# EAGLE library part PIC18F87J94 (library microchip)
MCU 8-BIT 128KB FLASH
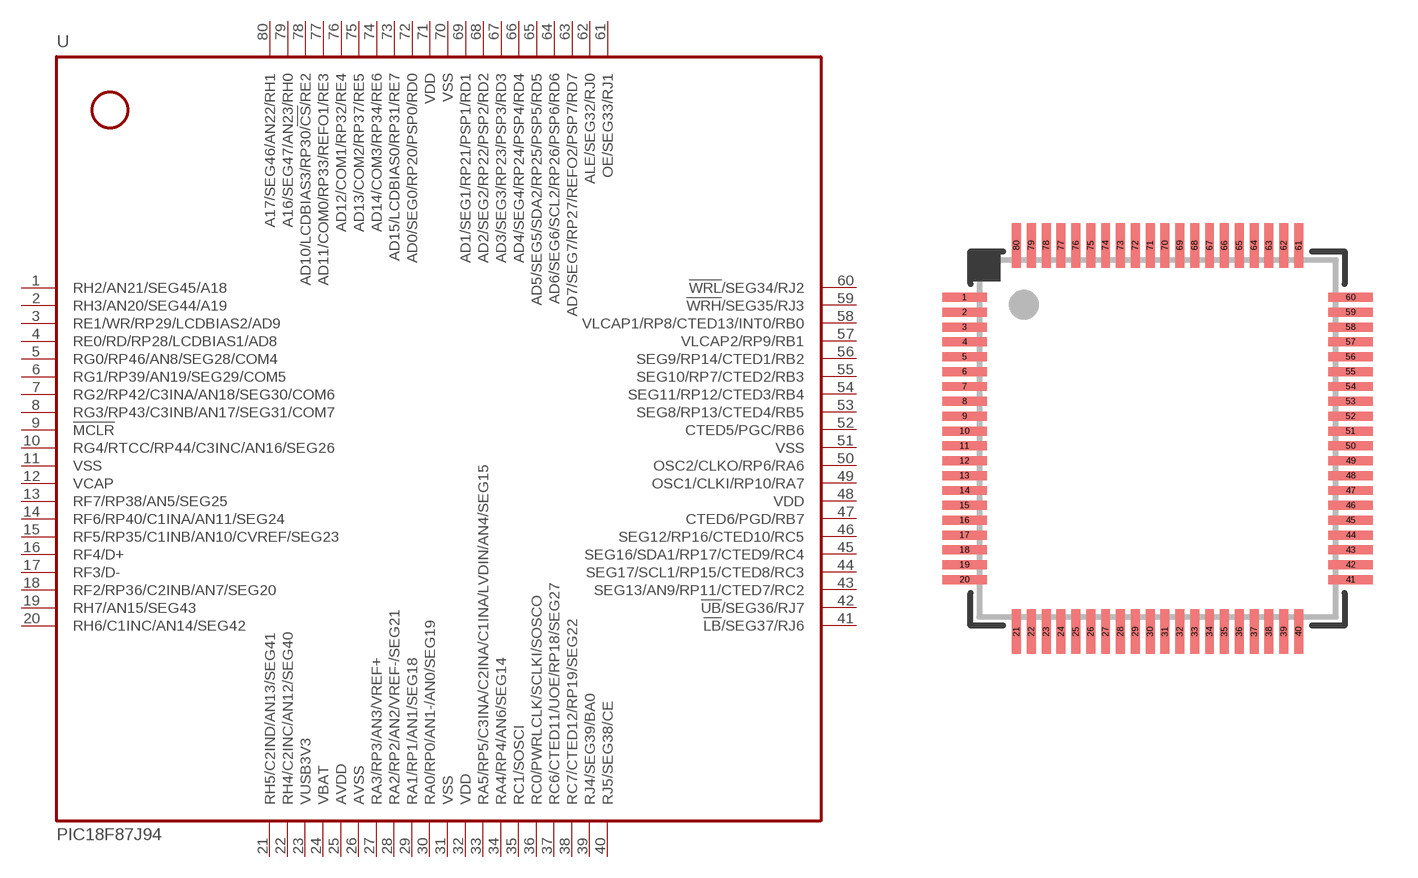
[diagram p148: symbol with the pads of TQFP80-12X12; footprint TQFP80-12X12]

Designator prefix U

## PIC18F87J94  [TQFP80-12X12]
1  RH2/AN21/SEG45/A18
2  RH3/AN20/SEG44/A19
3  RE1/WR/RP29/LCDBIAS2/AD9
4  RE0/RD/RP28/LCDBIAS1/AD8
5  RG0/RP46/AN8/SEG28/COM4
6  RG1/RP39/AN19/SEG29/COM5
7  RG2/RP42/C3INA/AN18/SEG30/COM6
8  RG3/RP43/C3INB/AN17/SEG31/COM7
9  !MCLR!
10  RG4/RTCC/RP44/C3INC/AN16/SEG26
11  VSS
12  VCAP
13  RF7/RP38/AN5/SEG25
14  RF6/RP40/C1INA/AN11/SEG24
15  RF5/RP35/C1INB/AN10/CVREF/SEG23
16  RF4/D+
17  RF3/D-
18  RF2/RP36/C2INB/AN7/SEG20
19  RH7/AN15/SEG43
20  RH6/C1INC/AN14/SEG42
21  RH5/C2IND/AN13/SEG41
22  RH4/C2INC/AN12/SEG40
23  VUSB3V3
24  VBAT
25  AVDD
26  AVSS
27  RA3/RP3/AN3/VREF+
28  RA2/RP2/AN2/VREF-/SEG21
29  RA1/RP1/AN1/SEG18
30  RA0/RP0/AN1-/AN0/SEG19
31  VSS
32  VDD
33  RA5/RP5/C3INA/C2INA/C1INA/LVDIN/AN4/SEG15
34  RA4/RP4/AN6/SEG14
35  RC1/SOSCI
36  RC0/PWRLCLK/SCLKI/SOSCO
37  RC6/CTED11/UOE/RP18/SEG27
38  RC7/CTED12/RP19/SEG22
39  RJ4/SEG39/BA0
40  RJ5/SEG38/CE
41  !LB!/SEG37/RJ6
42  !UB!/SEG36/RJ7
43  SEG13/AN9/RP11/CTED7/RC2
44  SEG17/SCL1/RP15/CTED8/RC3
45  SEG16/SDA1/RP17/CTED9/RC4
46  SEG12/RP16/CTED10/RC5
47  CTED6/PGD/RB7
48  VDD
49  OSC1/CLKI/RP10/RA7
50  OSC2/CLKO/RP6/RA6
51  VSS
52  CTED5/PGC/RB6
53  SEG8/RP13/CTED4/RB5
54  SEG11/RP12/CTED3/RB4
55  SEG10/RP7/CTED2/RB3
56  SEG9/RP14/CTED1/RB2
57  VLCAP2/RP9/RB1
58  VLCAP1/RP8/CTED13/INT0/RB0
59  !WRH!/SEG35/RJ3
60  !WRL!/SEG34/RJ2
61  OE/SEG33/RJ1
62  ALE/SEG32/RJ0
63  AD7/SEG7/RP27/REFO2/PSP7/RD7
64  AD6/SEG6/SCL2/RP26/PSP6/RD6
65  AD5/SEG5/SDA2/RP25/PSP5/RD5
66  AD4/SEG4/RP24/PSP4/RD4
67  AD3/SEG3/RP23/PSP3/RD3
68  AD2/SEG2/RP22/PSP2/RD2
69  AD1/SEG1/RP21/PSP1/RD1
70  VSS
71  VDD
72  AD0/SEG0/RP20/PSP0/RD0
73  AD15/LCDBIAS0/RP31/RE7
74  AD14/COM3/RP34/RE6
75  AD13/COM2/RP37/RE5
76  AD12/COM1/RP32/RE4
77  AD11/COM0/RP33/REFO1/RE3
78  AD10/LCDBIAS3/RP30/!CS!/RE2
79  A16/SEG47/AN23/RH0
80  A17/SEG46/AN22/RH1

## Footprint TQFP80-12X12 (pad centres in mm)
TQFP80 12x12x1 mm Body Source: http://www.microchip.com/ .. 39663c.pdf
smd 1.5 x 0.3: 1 -6.5,4.75; 2 -6.5,4.25; 3 -6.5,3.75; 4 -6.5,3.25; 5 -6.5,2.75; 6 -6.5,2.25; 7 -6.5,1.75; 8 -6.5,1.25; 9 -6.5,0.75; 10 -6.5,0.25; 11 -6.5,-0.25; 12 -6.5,-0.75; 13 -6.5,-1.25; 14 -6.5,-1.75; 15 -6.5,-2.25; 16 -6.5,-2.75; 17 -6.5,-3.25; 18 -6.5,-3.75; 19 -6.5,-4.25; 20 -6.5,-4.75; 41 6.5,-4.75; 42 6.5,-4.25; 43 6.5,-3.75; 44 6.5,-3.25; 45 6.5,-2.75; 46 6.5,-2.25; 47 6.5,-1.75; 48 6.5,-1.25; 49 6.5,-0.75; 50 6.5,-0.25; 51 6.5,0.25; 52 6.5,0.75; 53 6.5,1.25; 54 6.5,1.75; 55 6.5,2.25; 56 6.5,2.75; 57 6.5,3.25; 58 6.5,3.75; 59 6.5,4.25; 60 6.5,4.75
smd 0.3 x 1.5: 21 -4.75,-6.5; 22 -4.25,-6.5; 23 -3.75,-6.5; 24 -3.25,-6.5; 25 -2.75,-6.5; 26 -2.25,-6.5; 27 -1.75,-6.5; 28 -1.25,-6.5; 29 -0.75,-6.5; 30 -0.25,-6.5; 31 0.25,-6.5; 32 0.75,-6.5; 33 1.25,-6.5; 34 1.75,-6.5; 35 2.25,-6.5; 36 2.75,-6.5; 37 3.25,-6.5; 38 3.75,-6.5; 39 4.25,-6.5; 40 4.75,-6.5; 61 4.75,6.5; 62 4.25,6.5; 63 3.75,6.5; 64 3.25,6.5; 65 2.75,6.5; 66 2.25,6.5; 67 1.75,6.5; 68 1.25,6.5; 69 0.75,6.5; 70 0.25,6.5; 71 -0.25,6.5; 72 -0.75,6.5; 73 -1.25,6.5; 74 -1.75,6.5; 75 -2.25,6.5; 76 -2.75,6.5; 77 -3.25,6.5; 78 -3.75,6.5; 79 -4.25,6.5; 80 -4.75,6.5